# Altium schematic symbol library Treetap7c.SCHLIB: 62 symbols
Pins are listed as number, name and electrical type; pins without a type are passive.

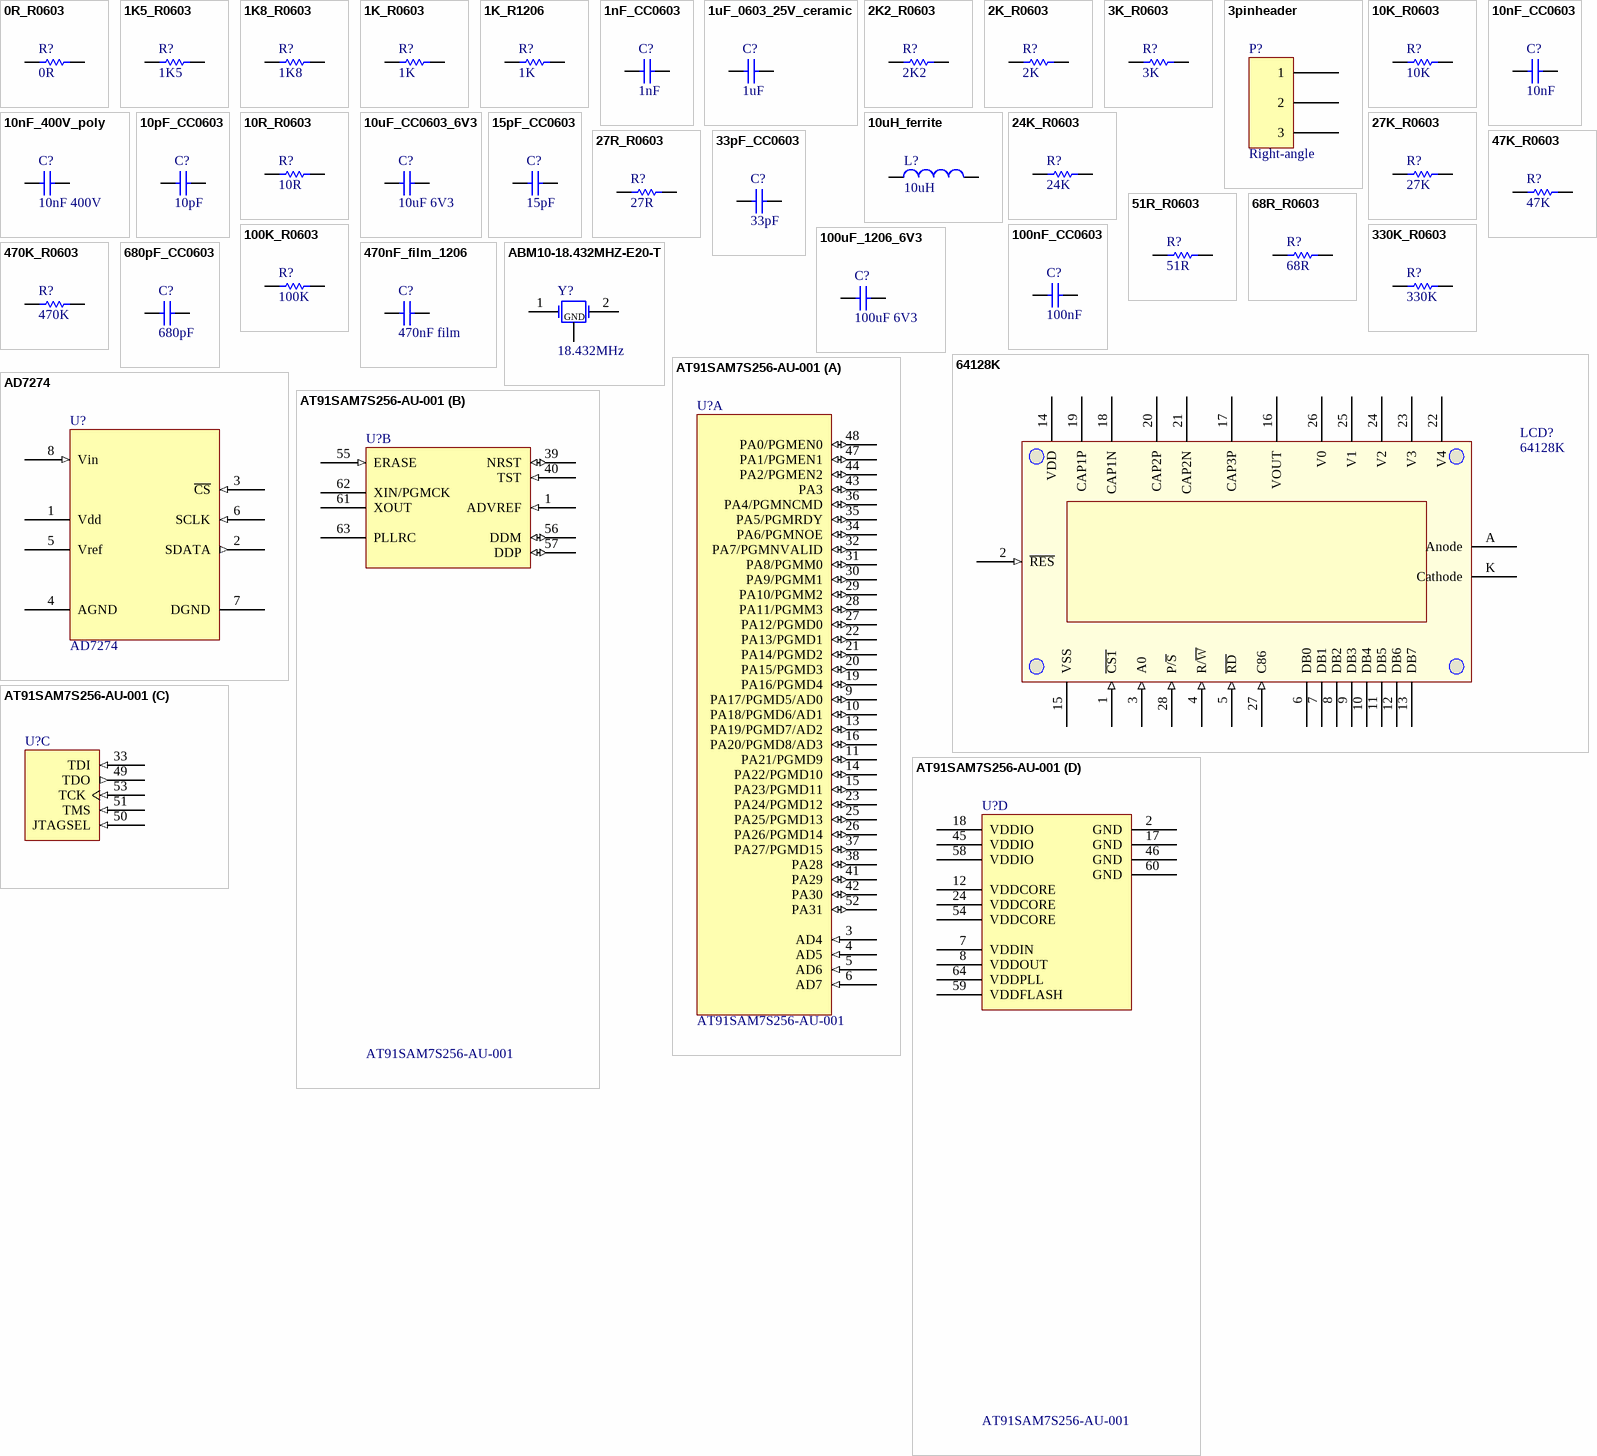
[diagram p0: symbols 0R_R0603 to AT91SAM7S256-AU-001]

## 0R_R0603
designator R?, comment 0R
0603 Resistor; ECE_Component_Code: 0R_R0603; Supplier_Component_Code: RS-S000; published: 12/03/2007 11:34:33 a.m.; Supplier_Name: Soanar Plus; price: 0.08; Part Number: 0R_R0603; Component Kind: Standard; Component Type: Standard; Designator: 0R_R0603; Footprint: R0603; Library Reference: 0R_R0603; Pin Count: 2; value: 0R
footprint R0603
pins: 1, 2

## 1K5_R0603
designator R?, comment 1K5
0603 Resistor; ECE_Component_Code: 1K5_R0603; Supplier_Component_Code: RS-S077; published: 12/03/2007 11:34:34 a.m.; Supplier_Name: Soanar Plus; price: 0.08; Part Number: 1K5_R0603; Component Kind: Standard; Component Type: Standard; Designator: 1K5_R0603; Footprint: R0603; Library Reference: 1K5_R0603; Pin Count: 2; value: 1K5
footprint R0603
pins: 1, 2

## 1K8_R0603
designator R?, comment 1K8
0603 Resistor; ECE_Component_Code: 1K8_R0603; Supplier_Component_Code: RS-S079; published: 12/03/2007 11:34:34 a.m.; Supplier_Name: Soanar Plus; price: 0.08; Part Number: 1K8_R0603; Component Kind: Standard; Component Type: Standard; Designator: 1K8_R0603; Footprint: R0603; Library Reference: 1K8_R0603; Pin Count: 2; value: 1K8
footprint R0603
pins: 1, 2

## 1K_R0603
designator R?, comment 1K
0603 Resistor; ECE_Component_Code: 1K_R0603; Supplier_Component_Code: RS-S073; published: 12/03/2007 11:34:34 a.m.; Supplier_Name: Soanar Plus; price: 0.08; Part Number: 1K_R0603; Component Kind: Standard; Component Type: Standard; Designator: 1K_R0603; Footprint: R0603; Library Reference: 1K_R0603; Pin Count: 2; value: 1K
footprint R0603
pins: 1, 2

## 1K_R1206
designator R?, comment 1K
1206 Resistor; ECE_Component_Code: 1K_R1206; Supplier_Component_Code: RS-U073; published: 12/03/2007 11:34:35 a.m.; Supplier_Name: Soanar Plus; price: 0.12; Part Number: 1K_R1206; Component Kind: Standard; Component Type: Standard; Designator: 1K_R1206; Footprint: R1206; Library Reference: 1K_R1206; Pin Count: 2; value: 1K
footprint R1206
pins: 1, 2

## 1nF_CC0603
designator C?, comment 1nF
0603 Capacitor; Part Number: 1nF_CC0603; Supplier_Component_Code: RC-P062; published: 28/03/2007 10:54:57 a.m.; Supplier_Name: Soanar Plus; price: 0.09; Component Kind: Standard; Component Type: Standard; Designator: 1nF_CC0603; Footprint: CC0603; Library Reference: 1nF_CC0603; Pin Count: 2; value: 1nF
footprint CC0603
pins: 1, 2

## 1uF_0603_25V_ceramic
designator C?, comment 1uF
1uF 25V 0603 ceramic capacitor; Manufacturer: Kemet; Part Number: C0603C105K3PAC; Order multiple: 10; Pack of: 1; Supplier_Component_Code: 1288202; published: 15/02/2010; Supplier_Name: Farnell; price: 0.465; value: 1uF
footprint CC0603 (Chip Capacitor; Body 1.6 x 0.8 mm (LxW typ))
pins: 1, 2
1 alternate drawing of the same symbol

## 2K2_R0603
designator R?, comment 2K2
0603 Resistor; ECE_Component_Code: 2K2_R0603; Supplier_Component_Code: RS-S081; published: 12/03/2007 11:34:34 a.m.; Supplier_Name: Soanar Plus; price: 0.08; Part Number: 2K2_R0603; Component Kind: Standard; Component Type: Standard; Designator: 2K2_R0603; Footprint: R0603; Library Reference: 2K2_R0603; Pin Count: 2; value: 2K2
footprint R0603
pins: 1, 2

## 2K_R0603
designator R?, comment 2K
0603 Resistor; ECE_Component_Code: 2K_R0603; Supplier_Component_Code: RS-S080; published: 12/03/2007 11:34:34 a.m.; Supplier_Name: Soanar Plus; price: 0.08; Part Number: 2K_R0603; Component Kind: Standard; Component Type: Standard; Designator: 2K_R0603; Footprint: R0603; Library Reference: 2K_R0603; Pin Count: 2; value: 2K
footprint R0603
pins: 1, 2

## 3K_R0603
designator R?, comment 3K
0603 Resistor; ECE_Component_Code: 3K_R0603; Supplier_Component_Code: RS-S084; published: 12/03/2007 11:34:34 a.m.; Supplier_Name: Soanar Plus; price: 0.08; Part Number: 3K_R0603; Component Kind: Standard; Component Type: Standard; Designator: 3K_R0603; Footprint: R0603; Library Reference: 3K_R0603; Pin Count: 2; value: 3K
footprint R0603
pins: 1, 2

## 3pinheader
designator P?, comment Right-angle
3 pin 2.54mm pitch right-angle header; Manufacturer: (Multi-sourced part); Pack of: 1; Supplier_Component_Code: HM3423; published: 14/01/2008; Supplier_Name: Soanar Plus; price: 0.18; Part Number: -; Order multiple: 1; value: Right-angle
footprint 3pinheader (3 pin 2.54mm pitch right angle header)
3D model 3pinheader (PCB3D Model)
pins: 1 "Pin 1", 2 "Pin 2", 3 "Pin 3"
1 alternate drawing of the same symbol

## 10K_R0603
designator R?, comment 10K
0603 Resistor; ECE_Component_Code: 10K_R0603; Supplier_Component_Code: RS-S097; published: 12/03/2007 11:34:34 a.m.; Supplier_Name: Soanar Plus; price: 0.08; Part Number: 10K_R0603; Component Kind: Standard; Component Type: Standard; Designator: 10K_R0603; Footprint: R0603; Library Reference: 10K_R0603; Pin Count: 2; value: 10K
footprint R0603
pins: 1, 2

## 10nF_400V_poly
designator C?, comment 10nF 400V
10nF 400V polyester capacitor; Manufacturer: Vishay BC Components; Part Number: BFC247066103; Order multiple: 10; Pack of: 1; Supplier_Component_Code: 1166069; published: 15/02/2010; Supplier_Name: Farnell; price: 0.613; value: 10nF 400V
footprint CC_MKT470 (Thru-hole metalysed polyester film capacitor)
3D model MKT470 (PCB3D Model)
pins: 1, 2
1 alternate drawing of the same symbol

## 10nF_CC0603
designator C?, comment 10nF
0603 Capacitor; Part Number: 10nF_CC0603; Supplier_Component_Code: RC-P097; published: 28/03/2007 10:54:57 a.m.; Supplier_Name: Soanar Plus; price: 0.09; Component Kind: Standard; Component Type: Standard; Designator: 10nF_CC0603; Footprint: CC0603; Library Reference: 10nF_CC0603; Pin Count: 2; value: 10nF
footprint CC0603
pins: 1, 2

## 10pF_CC0603
designator C?, comment 10pF
0603 Capacitor; Part Number: 10pF_CC0603; Supplier_Component_Code: RC-P050; published: 28/03/2007 10:54:57 a.m.; Supplier_Name: Soanar Plus; price: 0.06; Component Kind: Standard; Component Type: Standard; Designator: 10pF_CC0603; Footprint: CC0603; Library Reference: 10pF_CC0603; Pin Count: 2; value: 10pF
footprint CC0603
pins: 1, 2

## 10R_R0603
designator R?, comment 10R
0603 Resistor; ECE_Component_Code: 10R_R0603; Supplier_Component_Code: RS-S025; published: 12/03/2007 11:34:33 a.m.; Supplier_Name: Soanar Plus; price: 0.08; Part Number: 10R_R0603; Component Kind: Standard; Component Type: Standard; Designator: 10R_R0603; Footprint: R0603; Library Reference: 10R_R0603; Pin Count: 2; value: 10R
footprint R0603
pins: 1, 2

## 10uF_CC0603_6V3
designator C?, comment 10uF 6V3
10uF 6.3V 0603 ceramic capacitor; Manufacturer: Multicomp; Part Number: MCCA000517; Supplier_Component_Code: 1759393; published: 8/06/2010; Supplier_Name: Farnell; price: 0.218; value: 10uF 6V3
footprint CC0603 (Chip Capacitor; Body 1.6 x 0.8 mm (LxW typ))
pins: 1, 2
1 alternate drawing of the same symbol

## 10uH_ferrite
designator L?, comment 10uH
10uH ferrite bead; Manufacturer: Tyco Electronics; Part Number: BMB2A0300AN1; Order multiple: 10; Pack of: 1; price: 0.21; Supplier_Component_Code: 1193418; Supplier_Name: Farnell; published: 07/01/2008; value: 10uH
footprint 0805 (0805 package; Body 2.0 x 1.3 mm (LxW typ))
pins: 1, 2

## 15pF_CC0603
designator C?, comment 15pF
0603 Capacitor; Part Number: 15pF_CC0603; Supplier_Component_Code: RC-P051; published: 28/03/2007 10:54:57 a.m.; Supplier_Name: Soanar Plus; price: 0.06; Component Kind: Standard; Component Type: Standard; Designator: 15pF_CC0603; Footprint: CC0603; Library Reference: 15pF_CC0603; Pin Count: 2; value: 15pF
footprint CC0603
pins: 1, 2

## 24K_R0603
designator R?, comment 24K
0603 Resistor; ECE_Component_Code: 24K_R0603; Supplier_Component_Code: RS-S106; published: 12/03/2007 11:34:34 a.m.; Supplier_Name: Soanar Plus; price: 0.08; Part Number: 24K_R0603; Component Kind: Standard; Component Type: Standard; Designator: 24K_R0603; Footprint: R0603; Library Reference: 24K_R0603; Pin Count: 2; value: 24K
footprint R0603
pins: 1, 2

## 27K_R0603
designator R?, comment 27K
0603 Resistor; ECE_Component_Code: 27K_R0603; Supplier_Component_Code: RS-S107; published: 12/03/2007 11:34:34 a.m.; Supplier_Name: Soanar Plus; price: 0.08; Part Number: 27K_R0603; Component Kind: Standard; Component Type: Standard; Designator: 27K_R0603; Footprint: R0603; Library Reference: 27K_R0603; Pin Count: 2; value: 27K
footprint R0603
pins: 1, 2

## 27R_R0603
designator R?, comment 27R
0603 Resistor; ECE_Component_Code: 27R_R0603; Supplier_Component_Code: RS-S035; published: 12/03/2007 11:34:33 a.m.; Supplier_Name: Soanar Plus; price: 0.08; Part Number: 27R_R0603; Component Kind: Standard; Component Type: Standard; Designator: 27R_R0603; Footprint: R0603; Library Reference: 27R_R0603; Pin Count: 2; value: 27R
footprint R0603
pins: 1, 2

## 33pF_CC0603
designator C?, comment 33pF
0603 Capacitor; Part Number: 33pF_CC0603; Supplier_Component_Code: RC-P053; published: 28/03/2007 10:54:57 a.m.; Supplier_Name: Soanar Plus; price: 0.06; Component Kind: Standard; Component Type: Standard; Designator: 33pF_CC0603; Footprint: CC0603; Library Reference: 33pF_CC0603; Pin Count: 2; value: 33pF
footprint CC0603
pins: 1, 2

## 47K_R0603
designator R?, comment 47K
0603 Resistor; ECE_Component_Code: 47K_R0603; Supplier_Component_Code: RS-S113; published: 12/03/2007 11:34:34 a.m.; Supplier_Name: Soanar Plus; price: 0.08; Part Number: 47K_R0603; Component Kind: Standard; Component Type: Standard; Designator: 47K_R0603; Footprint: R0603; Library Reference: 47K_R0603; Pin Count: 2; value: 47K
footprint R0603
pins: 1, 2

## 51R_R0603
designator R?, comment 51R
0603 Resistor; ECE_Component_Code: 51R_R0603; Supplier_Component_Code: RS-S042; published: 12/03/2007 11:34:34 a.m.; Supplier_Name: Soanar Plus; price: 0.08; Part Number: 51R_R0603; Component Kind: Standard; Component Type: Standard; Designator: 51R_R0603; Footprint: R0603; Library Reference: 51R_R0603; Pin Count: 2; value: 51R
footprint R0603
pins: 1, 2

## 68R_R0603
designator R?, comment 68R
0603 Resistor; ECE_Component_Code: 68R_R0603; Supplier_Component_Code: RS-S045; published: 12/03/2007 11:34:34 a.m.; Supplier_Name: Soanar Plus; price: 0.08; Part Number: 68R_R0603; Component Kind: Standard; Component Type: Standard; Designator: 68R_R0603; Footprint: R0603; Library Reference: 68R_R0603; Pin Count: 2; value: 68R
footprint R0603
pins: 1, 2

## 100K_R0603
designator R?, comment 100K
0603 Resistor; ECE_Component_Code: 100K_R0603; Supplier_Component_Code: RS-S121; published: 12/03/2007 11:34:34 a.m.; Supplier_Name: Soanar Plus; price: 0.08; Part Number: 100K_R0603; Component Kind: Standard; Component Type: Standard; Designator: 100K_R0603; Footprint: R0603; Library Reference: 100K_R0603; Pin Count: 2; value: 100K
footprint R0603
pins: 1, 2

## 100nF_CC0603
designator C?, comment 100nF
0603 Capacitor; Part Number: 100nF_CC0603; Supplier_Component_Code: RC-P100; published: 28/03/2007 10:54:57 a.m.; Supplier_Name: Soanar Plus; price: 0.09; Component Kind: Standard; Component Type: Standard; Designator: 100nF_CC0603; Footprint: CC0603; Library Reference: 100nF_CC0603; Pin Count: 2; value: 100nF
footprint CC0603
pins: 1, 2

## 100uF_1206_6V3
designator C?, comment 100uF 6V3
100uF 6.3V 1206 multi-layer ceramic capacitor; Part Number: C1206C107M9PACTU; Manufacturer: Kemet; Supplier_Component_Code: 399-5620-1-ND; published: 08/06/2010; Supplier_Name: Digikey; price: 2.56; Type: Ceramic; value: 100uF 6V3
footprint CC1206 (Chip Capaciter; Body 3.2 x 1.6 mm (LxW typ))
pins: 1, 2
1 alternate drawing of the same symbol

## 330K_R0603
designator R?, comment 330K
0603 Resistor; ECE_Component_Code: 330K_R0603; Supplier_Component_Code: RS-S133; published: 12/03/2007 11:34:34 a.m.; Supplier_Name: Soanar Plus; price: 0.08; Part Number: 330K_R0603; Component Kind: Standard; Component Type: Standard; Designator: 330K_R0603; Footprint: R0603; Library Reference: 330K_R0603; Pin Count: 2; value: 330K
footprint R0603
pins: 1, 2

## 470K_R0603
designator R?, comment 470K
0603 Resistor; ECE_Component_Code: 470K_R0603; Supplier_Component_Code: RS-S137; published: 12/03/2007 11:34:34 a.m.; Supplier_Name: Soanar Plus; price: 0.08; Part Number: 470K_R0603; Component Kind: Standard; Component Type: Standard; Designator: 470K_R0603; Footprint: R0603; Library Reference: 470K_R0603; Pin Count: 2; value: 470K
footprint R0603
pins: 1, 2

## 470nF_film_1206
designator C?, comment value 470nF film  (hidden comment: Farnell)
470nF 1206 16V film capacitor; Manufacturer: Panasonic; Part Number: ECPU1C474MA5; Supplier_Name: Farnell; Supplier_Component_Code: 9694293; Price: 0.777
footprint CC1206 (Chip Capaciter; Body 3.2 x 1.6 mm (LxW typ))
pins: 1, 2

## 680pF_CC0603
designator C?, comment 680pF
0603 Capacitor; Part Number: 680pF_CC0603; Supplier_Component_Code: RC-P061; published: 28/03/2007 10:54:57 a.m.; Supplier_Name: Soanar Plus; price: 0.09; Component Kind: Standard; Component Type: Standard; Designator: 680pF_CC0603; Footprint: CC0603; Library Reference: 680pF_CC0603; Pin Count: 2; value: 680pF
footprint CC0603
pins: 1, 2

## 64128K
designator LCD?
64x128 COG LCD module; Part Number: 64128K-FC-BW-3; Manufacturer: Displaytech; Order multiple: 1; Supplier_Name: RS Components; Supplier_Component_Code: 564-399; price: 28.20; Published: 23/02/2010; Pack of: 1; value: 64128K
footprint 64128K (Displaytech 64x128 pixel model K LCD module with backlight)
pins: 1 ~{CS1} (in) "Chip select pin", 2 ~{RES} (in) "Reset pin", 3 A0 (in) "Register select pin", 4 R/~{W} (in) "Read/write execution control pin", 5 ~{RD} (in) "Read/write execution control pin", 6 DB0, 7 DB1, 8 DB2, 9 DB3, 10 DB4, 11 DB5, 12 DB6, 13 DB7, 14 VDD (power) "Power", 15 VSS "Ground?", 16 VOUT "Voltage convertor input/output pin", 17 CAP3P "Voltage convertor, capacitor 3 positive pin", 18 CAP1N "Voltage convertor, capacitor 1 postive pin", 19 CAP1P "Voltage convertor, capacitor 1 postive pin", 20 CAP2P "Voltage convertor, capacitor 2 postive pin", 21 CAP2N "Voltage convertor, capacitor 2 negative pin", 22 V4 "LCD driver supply voltages", 23 V3 "LCD driver supply voltages", 24 V2 "LCD driver supply voltages", 25 V1 "LCD driver supply voltages", 26 V0 "LCD driver supply voltages", 27 C86 (in) "Microcontroller interface selection", 28 P/~{S} (in) "Parallel/serial data input pin", A Anode "LCD driver supply voltages", K Cathode "LCD driver supply voltages"

## ABM10-18.432MHZ-E20-T
designator Y?, comment 18.432MHz
18.432MHz SMT crystal 2x2.5mm 20ppm; Part Number: ABM10-18.432MHZ-E20-T; Manufacturer: Abracon Corporation; Pack of: 1; Supplier_Component_Code: 535-9813-1-ND; published: 03/06/2010; Supplier_Name: Digikey; price: 3.79; Order multiple: 1; value: 18.432MHz
footprint ABM10-18.432MHZ-E20-T (Surface mount crystal)
pins: 1 OSC1, 2 OSC2, G GND

## AD7274
designator U?
3MSPS 12-bit SDI ADC; Manufacturer: Analog Devices; Part Number: AD7274BRMZ; Pack of: 1; datasheet_document: http://www.analog.com/UploadedFiles/Data_Sheets/AD7273_7274.pdf; price: 21.10; Supplier_Name: Farnell; published: 15/02/2010; Supplier_Component_Code: 1117903; Order multiple: 1; value: AD7274
footprint MO-187-AA (MSOP, 8-Leads, Body 3x3mm, Pitch 0.65mm, JEDEC MO-187-AA)
3D model MO-187-AA (PCB3D Model)
pins: 1 Vdd (power) "Power supply input", 2 SDATA (out) "Serial data output", 3 ~{CS} (in) "Chip select / conversion start", 4 AGND (power) "Analog ground", 5 Vref (power) "Reference voltage input", 6 SCLK (in) "Serial clock input", 7 DGND (power) "Digital ground", 8 Vin (in) "Analog input"

## AT91SAM7S256-AU-001
designator U?
Smart ARM Microcontroller, ARM7TDMI 32-Bit RISC CPU, 256KB Flash and 64KB SRAM, 64-Pin LQFP, Industrial, Pb-Free; Manufacturer: Atmel; Pack of: 1; ComponentLink1Description: Manufacturer Link; ComponentLink1URL: http://www.atmel.com; ComponentLink2Description: Datasheet; ComponentLink2URL: http://www.atmel.com/dyn/resources/prod_documents/6175s.pdf; price: 18.69; published: 15/02/2010; Supplier_Name: Farnell; Supplier_Component_Code: 1095460; Part Number: AT91SAM7S256; Order multiple: 1; value: AT91SAM7S256-AU-001
footprint LQFP64_L (Thin QFP, 64-Leads, Body 10x10mm, Pitch 0.5mm, IPC High Density)
part A pins: 3 AD4 (in), 4 AD5 (in), 5 AD6 (in), 6 AD7 (in), 9 PA17/PGMD5/AD0 (io), 10 PA18/PGMD6/AD1 (io), 11 PA21/PGMD9 (io), 13 PA19/PGMD7/AD2 (io), 14 PA22/PGMD10 (io), 15 PA23/PGMD11 (io), 16 PA20/PGMD8/AD3 (io), 19 PA16/PGMD4 (io), 20 PA15/PGMD3 (io), 21 PA14/PGMD2 (io), 22 PA13/PGMD1 (io), 23 PA24/PGMD12 (io), 25 PA25/PGMD13 (io), 26 PA26/PGMD14 (io), 27 PA12/PGMD0 (io), 28 PA11/PGMM3 (io), 29 PA10/PGMM2 (io), 30 PA9/PGMM1 (io), 31 PA8/PGMM0 (io), 32 PA7/PGMNVALID (io), 34 PA6/PGMNOE (io), 35 PA5/PGMRDY (io), 36 PA4/PGMNCMD (io), 37 PA27/PGMD15 (io), 38 PA28 (io), 41 PA29 (io), 42 PA30 (io), 43 PA3 (io), 44 PA2/PGMEN2 (io), 47 PA1/PGMEN1 (io), 48 PA0/PGMEN0 (io), 52 PA31 (io)
part B pins: 1 ADVREF (in), 39 NRST (io), 40 TST (in), 55 ERASE (in), 56 DDM (io), 57 DDP (io), 61 XOUT, 62 XIN/PGMCK, 63 PLLRC
part C pins: 33 TDI (in), 49 TDO (out), 50 JTAGSEL (in), 51 TMS (in), 53 TCK (in)
part D pins: 2 GND (power), 7 VDDIN (power), 8 VDDOUT (power), 12 VDDCORE (power), 17 GND (power), 18 VDDIO (power), 24 VDDCORE (power), 45 VDDIO (power), 46 GND (power), 54 VDDCORE (power), 58 VDDIO (power), 59 VDDFLASH (power), 60 GND (power), 64 VDDPLL (power)

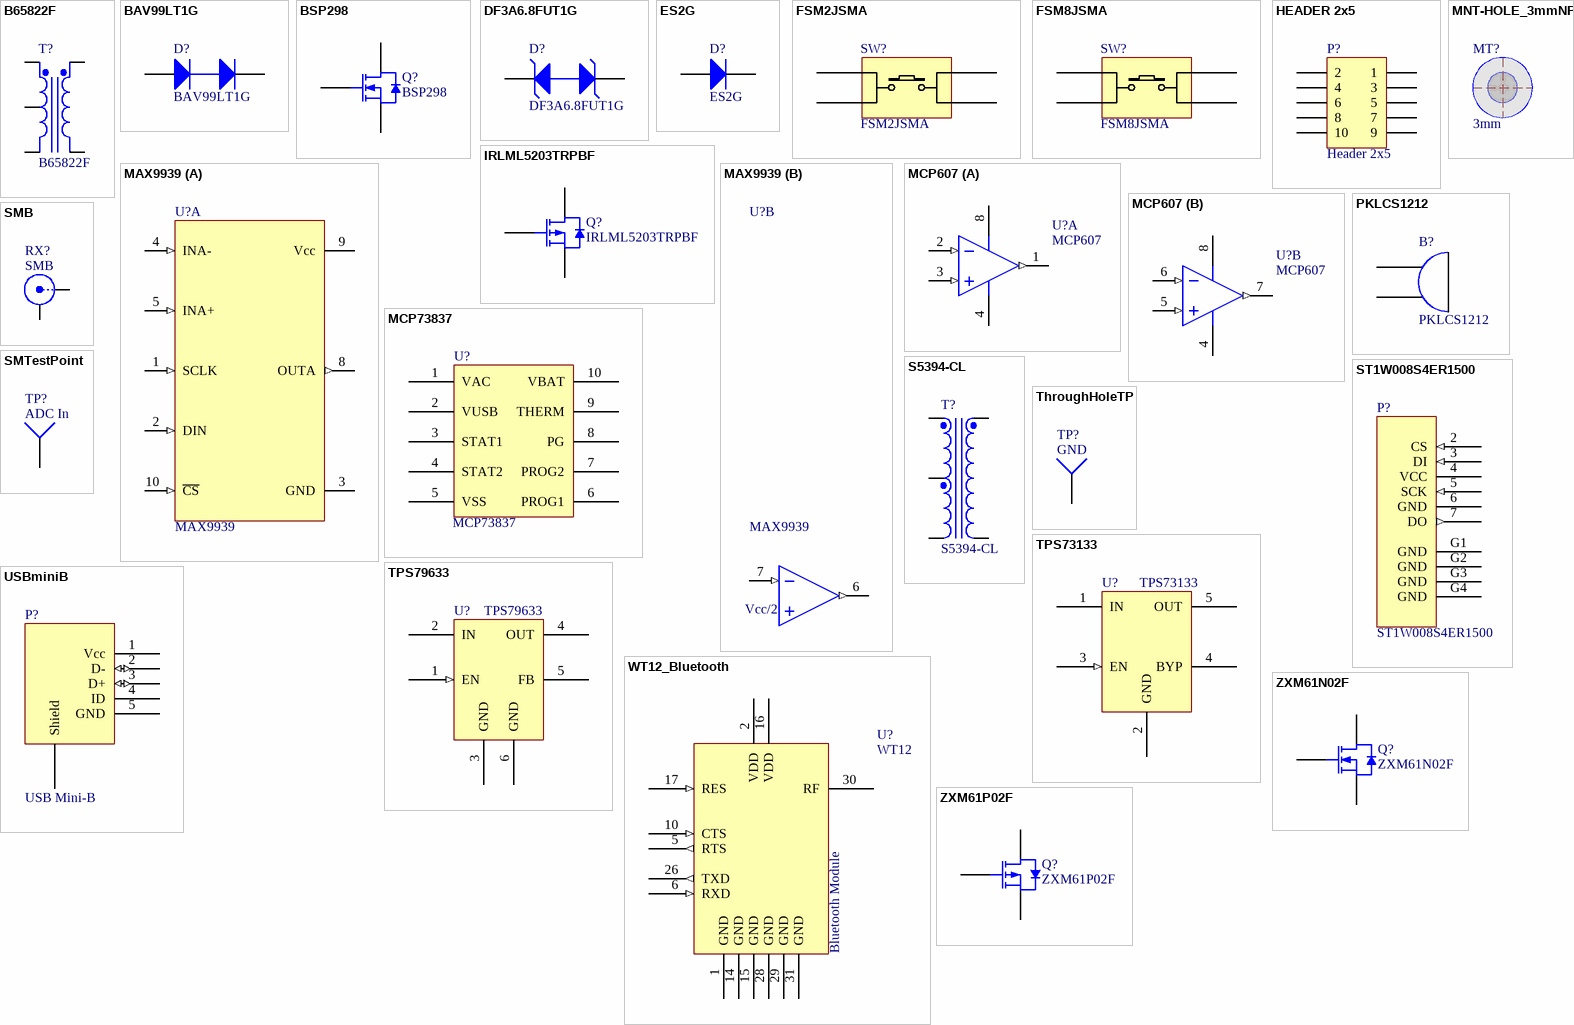
[diagram p1: symbols B65822F to ZXM61P02F]

## B65822F
designator T?
EPCOS SMD Transformer former (Gullwing); Supplier_Component_Code: -; published: 8/01/2008; Supplier_Name: -; price: 0; value: B65822F
footprint RM5 - Gullwing terminals (RM5 transformer)
3D model rm5 (PCB3D Model)
pins: 1 Pri1, 2 Pri-, 4 Pri2, 5 Sec1, 8 Sec2

## BAV99LT1G
designator D?
Silicon Switching Diode Array; Manufacturer: ON Semiconductor; Order multiple: 10; Pack of: 1; Supplier_Component_Code: 9558667; published: 19/12/2007; Supplier_Name: Farnell; price: 0.21; Part Number: BAV99LT1G; value: BAV99LT1G
footprint SOT-23 (SOT-23; 3 Leads; Body 3.0 x 2.6 mm, inc. leads (LxW max))
3D model sot23 (PCB3D Model)
pins: 1 A, 2 K, 3 C hidden

## BSP298
designator Q?
400V N-channel enhancement mode MOSFET; Manufacturer: Infineon; Pack of: 1; Supplier_Name: Farnell; Supplier_Component_Code: 1214281; price: 1.51; published: 15/02/2010; Part Number: BSP298; Order Multiple: 1; value: BSP298
footprint SOT-223 (SOT-223/SC-73; 4 Leads; Body 6.7 x 7.3 mm)
3D model bsp298 (PCB3D Model)
pins: 1 G, 2 D, 3 S

## DF3A6.8FUT1G
designator D?
Dual 6.8V Zener Diodes; Manufacturer: ON Semiconductor; Order multiple: 1; Supplier_Name: Farnell; Supplier_Component_Code: 1700967; Part Number: DF3A6.8FUT1G; price: 0.707; Pack of: 1; value: DF3A6.8FUT1G
footprint SC-70
pins: 1 A, 2 K, 3 C hidden

## ES2G
designator D?
Fast 2A 400V SMB diode, Vishay Semiconductor; Manufacturer: Vishay General Semiconductor; Pack of: 1; Order multiple: 5; Supplier_Name: Farnell; Supplier_Component_Code: 1215107; price: 2.32; published: 15/02/2010; Part Number: ES2G; value: ES2G
3D model es2g (PCB3D Model)
footprint DO214AA (SMB) (DO-214-AA/SMB; 2 C-Bend Leads;)
pins: 1 A, 2 K

## FSM2JSMA
designator SW?
DPST SMD Switch; Manufacturer: Tyco Electronics; Pack of: 1; Supplier_Name: Farnell; Supplier_Component_Code: 3801287; price: 0.516; Part Number: FSM2JSMA; Order multiple: 1; value: FSM2JSMA
footprint FSM2JSMA (DPST SMD Switch Footprint)
pins: 1, 2, 3, 4

## FSM8JSMA
designator SW?
DPST SMD Switch; Manufacturer: Tyco Electronics; Order multiple: 25; Pack of: 1; Supplier_Name: Farnell; price: 0.61; Part Number: FSM8JSMA; Supplier_Component_Code: 1555992; value: FSM8JSMA
footprint FSM8JSMA (DPST SMD Switch Footprint)
pins: 1, 2, 3, 4

## HEADER 2x5
designator P?, comment Header 2x5
SMD Header, 2x5, boxed; Manufacturer: 3M; Part Number: N2510-6V0C-RB-WD; Order multiple: 1; Supplier_Name: Digikey; Supplier_Component_Code: MSH10KCT-ND; price: 2.46; Pack of: 1; value: Header 2x5
footprint HEADER 2x5 (SMD 2x5 Header boxed)
pins: 1, 2, 3, 4, 5, 6, 7, 8, 9, 10

## IRLML5203TRPBF
designator Q?
30V P-channel enhancement mode MOSFET; Manufacturer: International Rectifier; Part Number: IRLML5203PBF; Order multiple: 5; Pack of: 1; Supplier_Name: Farnell; Supplier_Component_Code: 9103511; price: 0.98; published: 15/02/2010; value: IRLML5203TRPBF
footprint SOT-23 (SOT-23; 3 Leads; Body 3.0 x 2.6 mm, inc. leads (LxW max))
3D model sot23 (PCB3D Model)
pins: 1 G, 2 S, 3 D

## MAX9939
designator U?
PGA, Op-Amp; Manufacturer: Maxim; Part Number: MAX9939AUB+; Order multiple: 1; Supplier_Name: Maxim; Supplier_Component_Code: MAX9939AUB+; price: 1.48; Pack of: 1; value: MAX9939
footprint uSOP 10L (uSOP, 10-Leads, Body 3.0x3.0mm (max), Pitch 0.50mm, IPC Medium Density)
part A pins: 1 SCLK (in), 2 DIN (in), 3 GND (power), 4 INA- (in), 5 INA+ (in), 8 OUTA (out), 9 Vcc (power), 10 ~{CS} (in)
part B pins: 6 OUTB (out), 7 INB (in)
part B text: Vcc/2

## MCP607
designator U?
Dual micropower CMOS opamp; Manufacturer: Microchip; Part Number: MCP607-I/SN; Pack of: 1; datasheet_document: http://ww1.microchip.com/downloads/en/DeviceDoc/11177d.pdf; price: 1.92; Supplier_Name: Farnell; published: 21/12/2007; Supplier_Component_Code: 1196812; Order multiple: 1; value: MCP607
footprint MS-012 (SOIC, 8-Leads, Body 4.9x3.9mm, Pitch 1.27mm, JEDEC code MS-012)
pins on every part: 4 GND (power), 8 V+ (power)
part A pins: 1 OUT (out), 2 IN- (in), 3 IN+ (in)
part B pins: 5 IN+ (in), 6 IN- (in), 7 OUT (out)

## MCP73837
designator U?
USB Lithium Battery Charger; Manufacturer: Microchip; Part Number: MCP73837-FCI/UN; Order multiple: 1; Supplier_Name: Farnell; Supplier_Component_Code: 1675426; price: 1.58; Pack of: 1; value: MCP73837
footprint 10-MSOP (10-pin micro small outline package; 0.5mm pitch)
pins: 1 VAC, 2 VUSB, 3 STAT1, 4 STAT2, 5 VSS, 6 PROG1, 7 PROG2, 8 PG, 9 THERM, 10 VBAT

## MNT-HOLE_3mmNPTH
designator MT?, comment 3mm  (no BOM)
3mm Mount hole NPTH; ECE_Component_Code: MNT-HOLE_3.2mmNPTH; Supplier_Component_Code: -; published: 12/03/2007 11:34:37 a.m.; Supplier_Name: -; price: 0; value: 3mm
footprint MNT-HOLE_3mmNPTH (Mounting Hole 3mm non plated)

## PKLCS1212
designator B?
4kHz surface mount piezo; Manufacturer: Murata; Part Number: PKLCS1212E4001-R1; Order multiple: 1; price: 10.40; Supplier_Name: RS Components; Supplier_Component_Code: 619-8456; published: 15/02/2010; Pack of: 1; value: PKLCS1212
footprint PKSCL1212 (Piezo buzzer footprint)
pins: 0, 1

## S5394-CL
designator T?
Miniature SMT Transformer; Manufacturer: Coilcraft; Order multiple: 1; Supplier_Component_Code: -; published: 8/01/2008; Supplier_Name: -; price: 0; Part Number: S5394-CL; Pack of: 1; value: S5394-CL
footprint S5394-CL
pins: 1 Pri+, 2 PriC, 3 Pri-, 4 Sec-, 6 Sec+

## SMB
designator RX?
SMB PCB Right Angle Bulkhead Connector 50R; Manufacturer: Emerson Network Power Connectivity Solutions; Part Number: 131-3701-341; Order multiple: 1; Supplier_Component_Code: J522-ND; published: 15/02/2010; Supplier_Name: DigiKey; price: 14.14; Pack of: 1; value: SMB
footprint SMB PCB
pins: 1 Signal, 2 GND

## SMTestPoint
designator TP?, comment ADC In
Test point hook (surface mount); Manufacturer: Harwin; Part Number: S1751-46; value: SMTestPoint; Order Multiple: 1; Pack of: 100; price: 40.01; published: 15/02/2010; Supplier_Name: Farnell; Supplier_Component_Code: 1022338
footprint SMTP_1 (Surface Mount Test point)
pins: 1

## ST1W008S4ER1500
designator P?
microSD mount; Manufacturer: JAE; Order multiple: 1; Supplier_Name: Farnell; Supplier_Component_Code: 1702072; price: 4.55; Part Number: ST1W008S4ER1500; Pack of: 1; value: ST1W008S4ER1500
footprint ST1W008S4ER1500 (microSD mounting)
pins: 2 CS (in), 3 DI (in), 4 VCC (power), 5 SCK (in), 6 GND (power), 7 DO (out), G1 GND (power), G2 GND (power), G3 GND (power), G4 GND (power)

## ThroughHoleTP
designator TP?, comment GND
Through hole testpoint - intended for a loop of wire.
footprint ThroughHoleTP (Through hole testpoint - intended for a loop of wire.)
pins: 1

## TPS73133
designator U?
150mA 3.3V linear regulator with 30mV dropout; Manufacturer: Texas Instruments; Part Number: TPS73133DBVTG4; Pack of: 1; Supplier_Name: Farnell; Supplier_Component_Code: 1207341; price: 0.84; published: 15/02/2010; datasheet_document: http://www.ti.com/lit/gpn/tps73133; Order multiple: 1; value: TPS73133
footprint DBV005 (SOT-23/SC-74A; 5 Leads; Body 3 x 3 mm, inc. leads (LxW max))
pins: 1 IN (power) "Input supply", 2 GND (power) "Ground", 3 EN (in) "Enable", 4 BYP "Bypass pin", 5 OUT (power) "Output"

## TPS79633
designator U?
1A 3.3V linear regulator; Manufacturer: Texas Instruments; Part Number: TPS79633DCQG4; Pack of: 1; Supplier_Name: Farnell; Supplier_Component_Code: 1207359; price: 4.77; Order multiple: 1; value: TPS79633
footprint SOT223-6 (SOT223, 6-Leads, Body 6.6x7.3mm (max), Pitch 1.27mm, IPC Medium Density)
pins: 1 EN (in) "Enable", 2 IN (power) "Input supply", 3 GND (power) "Ground", 4 OUT (power) "Output", 5 FB "Feedback pin", 6 GND (power) "Ground"

## USBminiB
designator P?, comment USB Mini-B
USB mini B-type connector, surface mount with shield; Manufacturer: Molex; Part Number: 678038020; Order multiple: 1; Supplier_Name: Farnell; Supplier_Component_Code: 1355761; price: 0.61; Pack of: 1; value: USB Mini-B
footprint USBminiB (USB mini-B plug; surface mount; four shield tabs)
pins: 1 Vcc (power) "USB +5V supply", 2 D- (io) "Data, -ve differential signal", 3 D+ (io) "Data, +ve differential signal", 4 ID "ID signal", 5 GND (power) "Ground pin", Shield "ID signal"

## WT12_Bluetooth
designator U?, comment WT12
Bluetooth Module Block; Manufacturer: Bluegiga; Part Number: WT12-A-AI; Pack of: 1; component_link1_url: http://www.semiconductorstore.com/cart/pc/viewPrd.asp?idproduct=5101; price: 71.61; Supplier_Name: Farnell; published: 15/02/2010; Supplier_Component_Code: 1656896; Order multiple: 1; value: WT12
footprint WT12_Bluetooth (WT12 Bluetooth Module)
pins: 1 GND (power) "Digital ground", 2 VDD (power) "Digital ground", 5 RTS (out) "Serial data output", 6 RXD (in) "Chip select / conversion start", 10 CTS (in) "Chip select / conversion start", 14 GND (power) "Digital ground", 15 GND (power) "Digital ground", 16 VDD (power) "Digital ground", 17 RES (in) "Chip select / conversion start", 26 TXD (out) "Serial data output", 28 GND (power) "Digital ground", 29 GND (power) "Digital ground", 30 RF (power) "Digital ground", 31 GND (power) "Digital ground"
text: Bluetooth Module

## ZXM61N02F
designator Q?
20V N-channel enhancement mode MOSFET; Manufacturer: Zetex; Order multiple: 5; Pack of: 1; Supplier_Name: Farnell; Supplier_Component_Code: 9525270; price: 1.28; published: 7/12/2007; Part Number: ZXM61N02F; value: ZXM61N02F
footprint SOT-23 (SOT-23; 3 Leads; Body 3.0 x 2.6 mm, inc. leads (LxW max))
3D model sot23 (PCB3D Model)
pins: 1 G, 2 S, 3 D

## ZXM61P02F
designator Q?
20V P-channel enhancement mode MOSFET; Manufacturer: Zetex; Order multiple: 5; Pack of: 1; Supplier_Name: Farnell; Supplier_Component_Code: 9525297; price: 1.31; published: 7/12/2007; Part Number: ZXM61P02F; value: ZXM61P02F
footprint SOT-23 (SOT-23; 3 Leads; Body 3.0 x 2.6 mm, inc. leads (LxW max))
3D model sot23 (PCB3D Model)
pins: 1 G, 2 S, 3 D